# Altium footprint library ZYGD_TAS.PcbLib: 39 footprints (part 2 of 3)
Each footprint in its own frame and in the unit in brackets; x right, y up, seen from the top. Pads: shape width x height; smd on the part's side, far side on the other; paste and mask are expansions set on the pad; w line width, h text height; cw(c..) or ccw(c..) is an arc to the next point about the centre after c.
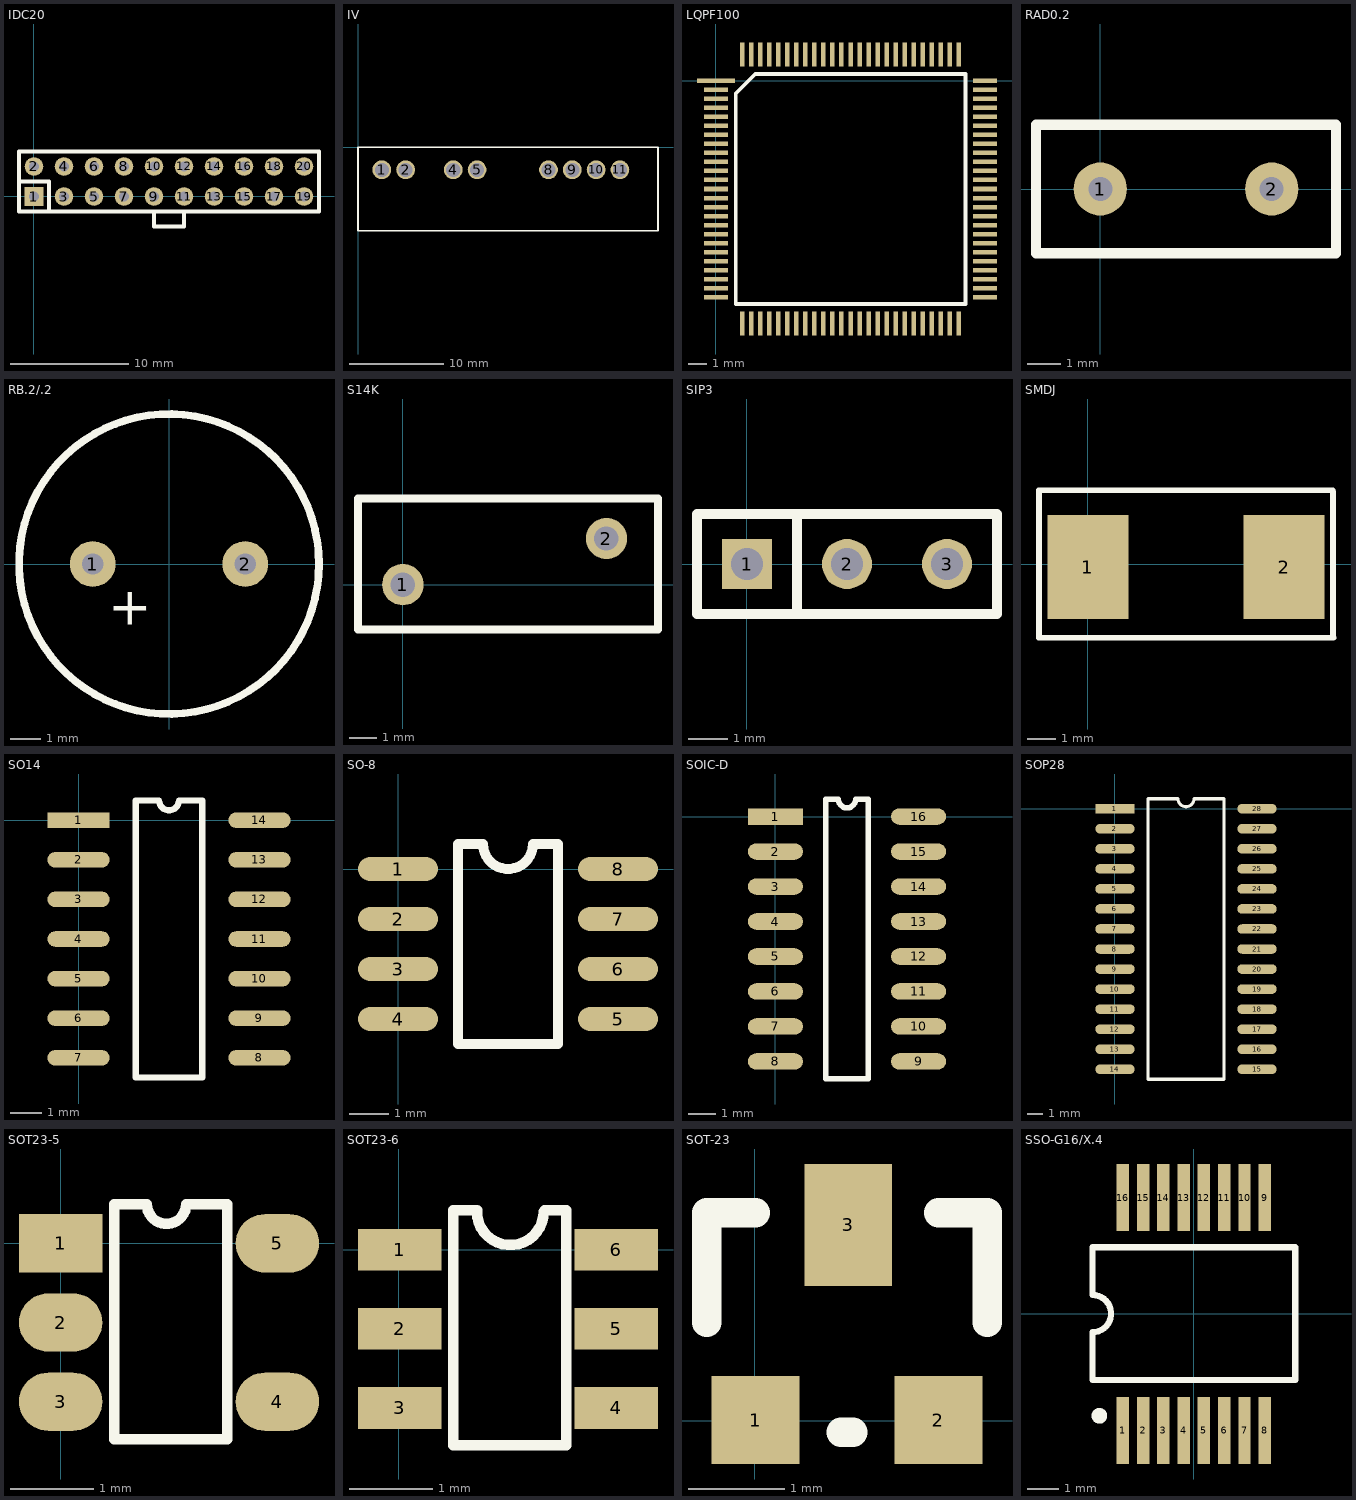
[diagram p1: the footprints below, top view; thin cyan lines are the x and y axes]

## IDC20 [mil]
pads (20):
  rect 62x62 hole 32: 1(0.32,-0.43)
  round 62 hole 32: 2(0.32,99.57) 3(100.32,-0.43) 4(100.32,99.57) 5(200.32,-0.43) 6(200.32,99.57) 7(300.32,-0.43) 8(300.32,99.57) 9(400.32,-0.43) 10(400.32,99.57) 11(500.32,-0.43) 12(500.32,99.57) 13(600.32,-0.43) 14(600.32,99.57) 15(700.32,-0.43) 16(700.32,99.57) 17(800.32,-0.43) 18(800.32,99.57) 19(900.32,-0.43) 20(900.32,99.57)
Top Overlay:
  lines w12: -49.68,49.57 50.32,49.57 50.32,-50.43 ; 400.32,-50.43 400.32,-100.43 500.32,-100.43 500.32,-50.43 ; -49.68,-50.43 950.32,-50.43 950.32,149.57 -49.68,149.57 -49.68,-50.43

## IV [mm]
pads (8):
  round 2 hole 1.5: 1(2.54,-2.4) 2(5.08,-2.4) 4(10.16,-2.4) 5(12.7,-2.4) 8(20.32,-2.4) 9(22.86,-2.4) 10(25.4,-2.4) 11(27.94,-2.4)
Top Overlay:
  lines w0.2: 0,-8.9 0,0 32,0 32,-8.9 0,-8.9

## LQPF100 [mm]
pads (100):
  rect 2.1x0.25 smd: 1(0,0)
  rect 1.321x0.25 smd: 2(0,-0.5) 3(0,-1) 4(0,-1.5) 5(0,-2) 6(0,-2.5) 7(0,-3) 8(0,-3.5) 9(0,-4) 11(0,-5) 12(0,-5.5) 13(0,-6) 14(0,-6.5) 15(0,-7) 16(0,-7.5) 17(0,-8) 18(0,-8.5) 19(0,-9) 20(0,-9.5) 21(0,-10) 22(0,-10.5) 23(0,-11) 24(0,-11.5) 25(0,-12) 51(14.9,-12) 52(14.9,-11.5) 53(14.9,-11) 54(14.9,-10.5) 55(14.9,-10) 56(14.9,-9.5) 57(14.9,-9) 58(14.9,-8.5) 59(14.9,-8) 60(14.9,-7.5) 61(14.9,-7) 62(14.9,-6.5) 63(14.9,-6) 64(14.9,-5.5) 65(14.9,-5) 66(14.9,-4.5) 67(14.9,-4) 68(14.9,-3.5) 69(14.9,-3) 70(14.9,-2.5) 71(14.9,-2) 72(14.9,-1.5) 73(14.9,-1) 74(14.9,-0.5) 75(14.9,0) v(0,-4.5)
  rect 0.25x1.321 smd: 26(1.45,-13.45) 27(1.95,-13.45) 28(2.45,-13.45) 29(2.95,-13.45) 30(3.45,-13.45) 31(3.95,-13.45) 32(4.45,-13.45) 33(4.95,-13.45) 34(5.45,-13.45) 35(5.95,-13.45) 36(6.45,-13.45) 37(6.95,-13.45) 38(7.45,-13.45) 39(7.95,-13.45) 40(8.45,-13.45) 41(8.95,-13.45) 42(9.45,-13.45) 43(9.95,-13.45) 44(10.45,-13.45) 45(10.95,-13.45) 46(11.45,-13.45) 47(11.95,-13.45) 48(12.45,-13.45) 49(12.95,-13.45) 50(13.45,-13.45) 76(13.45,1.45) 77(12.95,1.45) 78(12.45,1.45) 79(11.95,1.45) 80(11.45,1.45) 81(10.95,1.45) 82(10.45,1.45) 83(9.95,1.45) 84(9.45,1.45) 85(8.95,1.45) 86(8.45,1.45) 87(7.95,1.45) 88(7.45,1.45) 89(6.95,1.45) 90(6.45,1.45) 91(5.95,1.45) 92(5.45,1.45) 93(4.95,1.45) 94(4.45,1.45) 95(3.95,1.45) 96(3.45,1.45) 97(2.95,1.45) 98(2.45,1.45) 99(1.95,1.45) 100(1.45,1.45)
Top Overlay:
  lines w0.2: 1.085,-12.365 13.815,-12.365 13.815,0.365 2.17,0.365 1.085,-0.72 1.085,-12.365

## RAD0.2 [mil]
pads (2):
  round 62 hole 28: 1(0,0) 2(200,0)
Top Overlay:
  lines w12: -75,-75 -75,75 275,75 275,-75 -75,-75

## RB.2/.2 [mil]
pads (2):
  round 60 hole 28: 1(-100.13,0) 2(99.87,0)
Top Overlay:
  circle w10: c-0.13,0 r196.85
  text "+" at -80.13,-80 h50

## S14K [mm]
pads (2):
  round 1.524 hole 0.9: 1(0,0) 2(7.5,1.7)
Top Overlay:
  lines w0.305: -1.651,-1.651 -1.651,3.175 9.398,3.175 9.398,-1.651 -1.651,-1.651

## SIP3 [mil]
pads (3):
  rect 50x50 hole 32: 1(0.32,0.09)
  round 50 hole 32: 2(100.32,0.09) 3(200.32,0.09)
Top Overlay:
  lines w10: 50.32,-49.91 50.32,50.09 ; -49.68,-49.91 250.32,-49.91 250.32,50.09 -49.68,50.09 -49.68,-49.91

## SMDJ [mm]
pads (2):
  rect 2.8x3.6 smd: 1(0,-0.093) 2(6.8,-0.093)
Top Overlay:
  lines w0.2: -1.702,-2.54 8.509,-2.54 ; -1.702,2.565 8.484,2.565 ; -1.7,-2.523 -1.7,2.522 ; 8.5,-2.523 8.5,2.522

## SO14 [mm]
pads (14):
  rect 2x0.5 smd: 1(0,0)
  oval 2x0.5 smd: 2(0,-1.27) 3(0,-2.54) 4(0,-3.81) 5(0,-5.08) 6(0,-6.35) 7(0,-7.62) 8(5.8,-7.62) 9(5.8,-6.35) 10(5.8,-5.08) 11(5.8,-3.81) 12(5.8,-2.54) 13(5.8,-1.27) 14(5.8,0)
Top Overlay:
  lines w0.2: 1.835,-8.255 3.965,-8.255 3.965,0.635 3.217,0.635 cw(c2.9,0.635) 2.582,0.635 1.835,0.635 1.835,-8.255

## SO-8 [mil]
pads (8):
  oval 80x24 smd: 1(0,0) 2(0,-50) 3(0,-100) 4(0,-150) 5(220,-150) 6(220,-100) 7(220,-50) 8(220,0)
Top Overlay:
  lines w10: 60,-175 160,-175 160,25 135,25 cw(c110,25) 85,25 60,25 60,-175

## SOIC-D [mm]
pads (16):
  rect 2x0.6 smd: 1(0,0)
  oval 2x0.6 smd: 2(0,-1.27) 3(0,-2.54) 4(0,-3.81) 5(0,-5.08) 6(0,-6.35) 7(0,-7.62) 8(0,-8.89) 9(5.2,-8.89) 10(5.2,-7.62) 11(5.2,-6.35) 12(5.2,-5.08) 13(5.2,-3.81) 14(5.2,-2.54) 15(5.2,-1.27) 16(5.2,0)
Top Overlay:
  lines w0.2: 1.835,-9.525 3.365,-9.525 3.365,0.635 2.917,0.635 cw(c2.6,0.635) 2.282,0.635 1.835,0.635 1.835,-9.525

## SOP28 [mm]
pads (28):
  rect 2.5x0.6 smd: 1(0,0)
  oval 2.5x0.6 smd: 2(0,-1.27) 3(0,-2.54) 4(0,-3.81) 5(0,-5.08) 6(0,-6.35) 7(0,-7.62) 8(0,-8.89) 9(0,-10.16) 10(0,-11.43) 11(0,-12.7) 12(0,-13.97) 13(0,-15.24) 14(0,-16.51) 15(9,-16.51) 16(9,-15.24) 17(9,-13.97) 18(9,-12.7) 19(9,-11.43) 20(9,-10.16) 21(9,-8.89) 22(9,-7.62) 23(9,-6.35) 24(9,-5.08) 25(9,-3.81) 26(9,-2.54) 27(9,-1.27) 28(9,0)
Top Overlay:
  lines w0.2: 3.962,0.635 2.085,0.635 2.085,-17.145 6.915,-17.145 6.915,0.635 5.029,0.635 ; 3.992,0.635 ccw(c4.5,0.635) 5.008,0.635

## SOT23-5 [mm]
pads (5):
  rect 1x0.7 smd: 1(0,0)
  oval 1x0.7 smd: 2(0,-0.95) 3(0,-1.9) 4(2.6,-1.9) 5(2.6,0)
Top Overlay:
  lines w0.127: 1.016,0.47 0.643,0.47 0.643,-2.349 2,-2.349 2,0.47 1.524,0.47 ; 1.035,0.47 ccw(c1.27,0.47) 1.505,0.47

## SOT23-6 [mm]
pads (6):
  rect 1x0.5 smd: 1(0.012,0.003) 2(0.012,-0.947) 3(0.012,-1.897) 4(2.612,-1.897) 5(2.612,-0.947) 6(2.612,0.003)
Top Overlay:
  lines w0.127: 0.94,0.457 ccw(c1.34,0.457) 1.74,0.457 ; 0.94,0.473 0.655,0.473 0.655,-2.347 2.012,-2.347 2.012,0.473 1.753,0.473

## SOT-23 [mil]
pads (3):
  rect 36x36 smd: 1(0.32,0.34) 2(75.32,0.34)
  rect 36x50 smd: 3(38.32,80.34)
Top Overlay:
  lines w12: -19.68,40.34 -19.68,85.34 0.32,85.34 ; 35.32,-4.66 40.32,-4.66 ; 75.32,85.34 95.32,85.34 95.32,40.34

## SSO-G16/X.4 [mm]
pads (16):
  rect 0.4x2.15 smd: 1(-2.275,-3.742) 2(-1.625,-3.742) 3(-0.975,-3.742) 4(-0.325,-3.742) 5(0.325,-3.742) 6(0.975,-3.742) 7(1.625,-3.742) 8(2.275,-3.742) 9(2.275,3.723) 10(1.625,3.723) 11(0.975,3.723) 12(0.325,3.723) 13(-0.325,3.723) 14(-0.975,3.723) 15(-1.625,3.723) 16(-2.275,3.723)
Top Overlay:
  circle w0.25: c-3.025,-3.272 r0.125
  lines w0.2: -3.25,-2.121 -3.25,-0.597 ccw(c-3.25,0.003) -3.25,0.603 -3.25,2.127 3.25,2.127 3.25,-2.121 -3.25,-2.121